# Altium footprint library MyLibrary_PCB.PcbLib: 12 footprints
Each footprint in its own frame and in the unit in brackets; x right, y up, seen from the top. Pads: shape width x height; smd on the part's side, far side on the other; paste and mask are expansions set on the pad; w line width, h text height; cw(c..) or ccw(c..) is an arc to the next point about the centre after c.
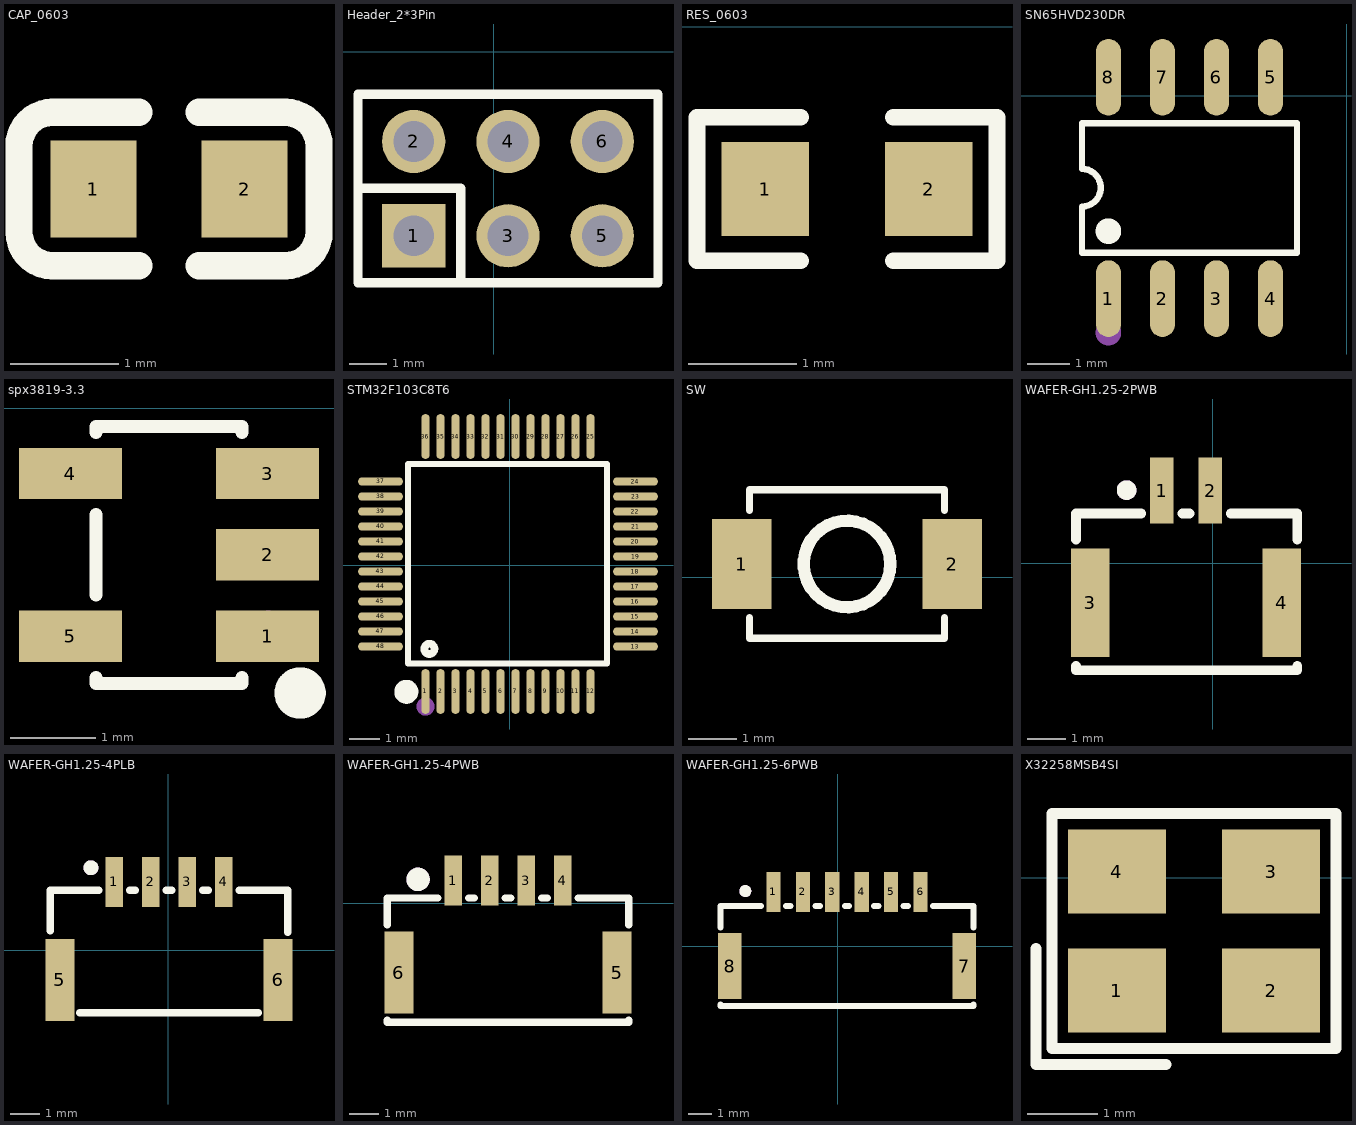
[diagram p0: the footprints below, top view; thin cyan lines are the x and y axes]

## CAP_0603 [mm]
pads (2):
  rect 0.8x0.9 smd: 1(-8.962,-1.576) 2(-7.562,-1.576)
Top Overlay:
  lines w0.254: -8.542,-2.286 -9.342,-2.286 cw(c-9.342,-1.976) -9.652,-1.976 -9.652,-1.176 cw(c-9.342,-1.176) -9.342,-0.866 -8.542,-0.866 ; -7.982,-2.286 -7.182,-2.286 ccw(c-7.182,-1.976) -6.872,-1.976 -6.872,-1.176 ccw(c-7.182,-1.176) -7.182,-0.866 -7.982,-0.866
3D body: height 0.25, standoff 0, extent -9.398,-2.159 -7.112,-1.016

## Header_2*3Pin [mm]
pads (6):
  rect 1.7x1.7 hole 1.1: 1(-2.159,-4.953)
  round 1.7 hole 1.1: 2(-2.159,-2.413) 3(0.381,-4.953) 4(0.381,-2.413) 5(2.921,-4.953) 6(2.921,-2.413)
Top Overlay:
  lines w0.254: -3.659,-3.676 -0.889,-3.676 -0.889,-6.223 ; -3.659,-6.223 -3.659,-1.143 4.421,-1.143 4.421,-6.223 -3.659,-6.223
Mechanical 8:
  region: -3.369,-6.183 -3.369,-6.208 -3.404,-6.243 -3.454,-6.243 -3.489,-6.208 -3.489,-6.183 -3.489,-6.158 -3.454,-6.123 -3.404,-6.123 -3.369,-6.158 -3.369,-6.183
3D body: height 0.25, standoff 0, extent -3.556,-6.096 4.318,-1.27

## RES_0603 [mm]
pads (2):
  rect 0.806x0.864 smd paste-100 mask+0.051: 1(-2.67,-1.498) 2(-1.164,-1.498)
Top Overlay:
  lines w0.152: -2.343,-2.159 -3.302,-2.159 -3.302,-0.838 -2.343,-0.838 ; -1.491,-2.159 -0.532,-2.159 -0.532,-0.838 -1.491,-0.838
3D body: height 0.25, standoff 0, extent -3.175,-2.159 -0.635,-0.889

## SN65HVD230DR [mm]
pads (8):
  oval 0.588x1.8 smd paste+0 mask+0.051: 1(-5.602,-4.765) 2(-4.332,-4.765) 3(-3.062,-4.765) 4(-1.792,-4.765) 5(-1.792,0.435) 6(-3.062,0.435) 7(-4.332,0.435) 8(-5.602,0.435)
Top Overlay:
  circle w0.3: c-5.602,-3.181 r0.15
  lines w0.15: -5.764,-3.686 -6.223,-3.686 ; -5.764,-0.643 -6.223,-0.643 ; -5.439,-3.686 -4.494,-3.686 ; -5.439,-0.643 -4.494,-0.643 ; -4.169,-3.686 -3.224,-3.686 ; -4.169,-0.643 -3.224,-0.643 ; -2.899,-3.686 -1.954,-3.686 ; -2.899,-0.643 -1.954,-0.643 ; -1.629,-3.686 -1.171,-3.686 ; -1.629,-0.643 -1.171,-0.643 ; -6.223,-3.686 -1.171,-3.686 ; -6.223,-3.686 -6.223,-2.6 ccw(c-6.223,-2.158) -6.223,-1.716 -6.223,-0.643 ; -6.223,-0.643 -1.171,-0.643 ; -1.171,-3.686 -1.171,-0.643
Mechanical 5:
  circle w0.3: c-5.602,-5.565 r0.15
3D body: height 0.25, standoff 0, extent -6.096,-3.683 -1.27,-0.762

## spx3819-3.3 [mm]
pads (5):
  rect 1.2x0.6 smd paste+0 mask+0.05: 1(-1.778,-2.662) 2(-1.778,-1.712) 3(-1.778,-0.762) 4(-4.078,-0.762) 5(-4.078,-2.662)
Top Overlay:
  circle w0.3: c-1.399,-3.323 r0.15
  lines w0.152: -3.778,-3.142 -3.778,-3.212 -2.078,-3.212 -2.078,-3.142 ; -3.778,-2.182 -3.778,-1.242 ; -3.778,-0.282 -3.778,-0.212 -2.078,-0.212 -2.078,-0.282
Mechanical 2:
  circle w0.3: c-1.778,-2.662 r0.15
Mechanical 6:
  lines w0.051: -3.728,-3.162 -2.128,-3.162 ; -3.728,-0.262 -2.128,-0.262
3D body: height 0.25, standoff 0, extent -3.728,-3.162 -2.128,-0.262

## STM32F103C8T6 [mm]
pads (48):
  oval 0.27x1.5 smd paste+0 mask+0.05: 1(-2.816,-4.207) 2(-2.315,-4.207) 3(-1.816,-4.207) 4(-1.315,-4.207) 5(-0.816,-4.207) 6(-0.315,-4.207) 7(0.184,-4.207) 8(0.685,-4.207) 9(1.184,-4.207) 10(1.685,-4.207) 11(2.184,-4.207) 12(2.685,-4.207) 25(2.685,4.292) 26(2.184,4.292) 27(1.685,4.292) 28(1.184,4.292) 29(0.685,4.292) 30(0.184,4.292) 31(-0.315,4.292) 32(-0.816,4.292) 33(-1.315,4.292) 34(-1.816,4.292) 35(-2.315,4.292) 36(-2.816,4.292)
  oval 1.5x0.27 smd paste+0 mask+0.05: 13(4.184,-2.708) 14(4.184,-2.207) 15(4.184,-1.708) 16(4.184,-1.207) 17(4.184,-0.708) 18(4.184,-0.207) 19(4.184,0.292) 20(4.184,0.793) 21(4.184,1.292) 22(4.184,1.793) 23(4.184,2.292) 24(4.184,2.793) 37(-4.316,2.793) 38(-4.315,2.293) 39(-4.316,1.793) 40(-4.315,1.293) 41(-4.316,0.793) 42(-4.315,0.293) 43(-4.316,-0.207) 44(-4.315,-0.707) 45(-4.316,-1.207) 46(-4.315,-1.707) 47(-4.316,-2.207) 48(-4.315,-2.707)
Top Overlay:
  circle w0.254: c-2.686,-2.787 r0.17
  lines w0.2: -2.961,3.383 3.236,3.383 3.236,-3.272 -3.393,-3.272 -3.393,3.383 -2.631,3.383
  lines w0.4: -3.456,-4.017 ccw(c-3.454,-4.217) -3.453,-4.017
Mechanical 5:
  circle w0.3: c-2.816,-4.707 r0.15
3D body: height 0.25, standoff 0, extent -3.287,-3.179 3.19,3.298

## SW [mm]
pads (2):
  rect 1.23x1.86 smd: 1(-6.624,0.271) 2(-2.254,0.271)
Top Overlay:
  circle w0.254: c-4.439,0.271 r0.9
  lines w0.152: -6.465,-0.839 -6.465,-1.27 -2.413,-1.27 -2.413,-0.839 ; -6.465,1.381 -6.465,1.812 -2.413,1.812 -2.413,1.381
3D body: height 0.25, standoff 0, extent -6.35,-1.143 -2.54,1.651

## WAFER-GH1.25-2PWB [mm]
pads (4):
  rect 0.6x1.7 smd paste+0 mask+0.05: 1(-1.322,1.884) 2(-0.072,1.884)
  rect 1x2.8 smd paste+0 mask+0.05: 3(-3.172,-1.016) 4(1.778,-1.016)
Top Overlay:
  circle w0.254: c-2.232,1.894 r0.127
  lines w0.254: -3.535,-2.647 -3.535,-2.761 2.178,-2.761 2.178,-2.647 ; -3.535,0.615 -3.535,1.287 -1.853,1.287 ; -0.791,1.287 -0.603,1.287 ; 0.459,1.287 2.178,1.287 2.178,0.615
Mechanical 2:
  circle w0.254: c-2.232,1.894 r0.127
Mechanical 6:
  lines w0.051: -3.572,-2.763 2.178,-2.763
3D body: height 0.25, standoff 0, extent -3.429,-2.763 2.178,1.143

## WAFER-GH1.25-4PLB [mm]
pads (6):
  rect 0.6x1.7 smd: 1(-1.841,2.337) 2(-0.591,2.337) 3(0.659,2.337) 4(1.909,2.337)
  rect 1x2.8 smd: 5(-3.691,-1.013) 6(3.759,-1.013)
Top Overlay:
  circle w0.254: c-2.633,2.821 r0.127
  lines w0.254: -4.03,0.662 -4.03,2.059 -2.372,2.059 ; -3.014,-2.132 3.082,-2.132 ; -1.31,2.059 -1.122,2.059 ; -0.06,2.059 0.128,2.059 ; 1.19,2.059 1.378,2.059 ; 2.44,2.059 4.098,2.059 4.098,0.618
Mechanical 2:
  circle w0.254: c-2.633,2.821 r0.127
3D body: height 0.25, standoff 0, extent -3.937,-2.032 3.937,1.905

## WAFER-GH1.25-4PWB [mm]
pads (6):
  rect 0.6x1.7 smd paste+0 mask+0.05: 1(4.255,0.783) 2(5.505,0.783) 3(6.755,0.783) 4(8.005,0.783)
  rect 1x2.8 smd paste+0 mask+0.05: 5(9.855,-2.367) 6(2.405,-2.367)
Top Overlay:
  circle w0.4: c3.058,0.821 r0.2
  lines w0.254: 2.005,-3.998 2.005,-4.064 10.255,-4.064 10.255,-3.998 ; 2.005,-0.736 2.005,0.186 3.724,0.186 ; 4.786,0.186 4.974,0.186 ; 6.036,0.186 6.224,0.186 ; 7.286,0.186 7.474,0.186 ; 8.536,0.186 10.255,0.186 10.255,-0.736
Mechanical 2:
  circle w0.4: c3.058,0.821 r0.2
Mechanical 6:
  lines w0.051: 2.005,-4.027 10.255,-4.027
3D body: height 0.25, standoff 0, extent 2.159,-3.937 10.165,0

## WAFER-GH1.25-6PWB [mm]
pads (8):
  rect 0.6x1.7 smd paste+0 mask+0.05: 1(-2.73,2.307) 2(-1.48,2.307) 3(-0.23,2.307) 4(1.02,2.307) 5(2.27,2.307) 6(3.52,2.307)
  rect 1x2.8 smd paste+0 mask+0.05: 7(5.37,-0.843) 8(-4.58,-0.843)
Top Overlay:
  circle w0.254: c-3.927,2.345 r0.127
  lines w0.254: -4.98,-2.474 -4.98,-2.54 5.77,-2.54 5.77,-2.474 ; -4.98,0.788 -4.98,1.71 -3.261,1.71 ; -2.199,1.71 -2.011,1.71 ; -0.949,1.71 -0.761,1.71 ; 0.301,1.71 0.489,1.71 ; 1.551,1.71 1.739,1.71 ; 2.801,1.71 2.989,1.71 ; 4.051,1.71 5.77,1.71 5.77,0.788
Mechanical 2:
  circle w0.254: c-3.927,2.345 r0.127
Mechanical 6:
  lines w0.051: -4.98,-2.433 5.77,-2.433
3D body: height 0.25, standoff 0, extent -4.826,-2.413 5.75,1.524

## X32258MSB4SI [mm]
pads (4):
  rect 1.4x1.2 smd: 1(-3.669,-1.61) 2(-1.469,-1.61) 3(-1.469,0.09) 4(-3.669,0.09)
Top Overlay:
  lines w0.152: -4.826,-1.01 -4.826,-2.667 -2.969,-2.667 ; -4.597,-2.438 -4.597,0.919 -0.54,0.919 -0.54,-2.438 -4.597,-2.438
Mechanical 2:
  circle w0.254: c-3.839,-1.649 r0.127
3D body: height 0.25, standoff 0, extent -4.445,-2.286 -0.635,0.762